# Altium footprint library SMD_CAP.PcbLib: 10 footprints
Each footprint in its own frame and in the unit in brackets; x right, y up, seen from the top. Pads: shape width x height; smd on the part's side, far side on the other; paste and mask are expansions set on the pad; w line width, h text height; cw(c..) or ccw(c..) is an arc to the next point about the centre after c.
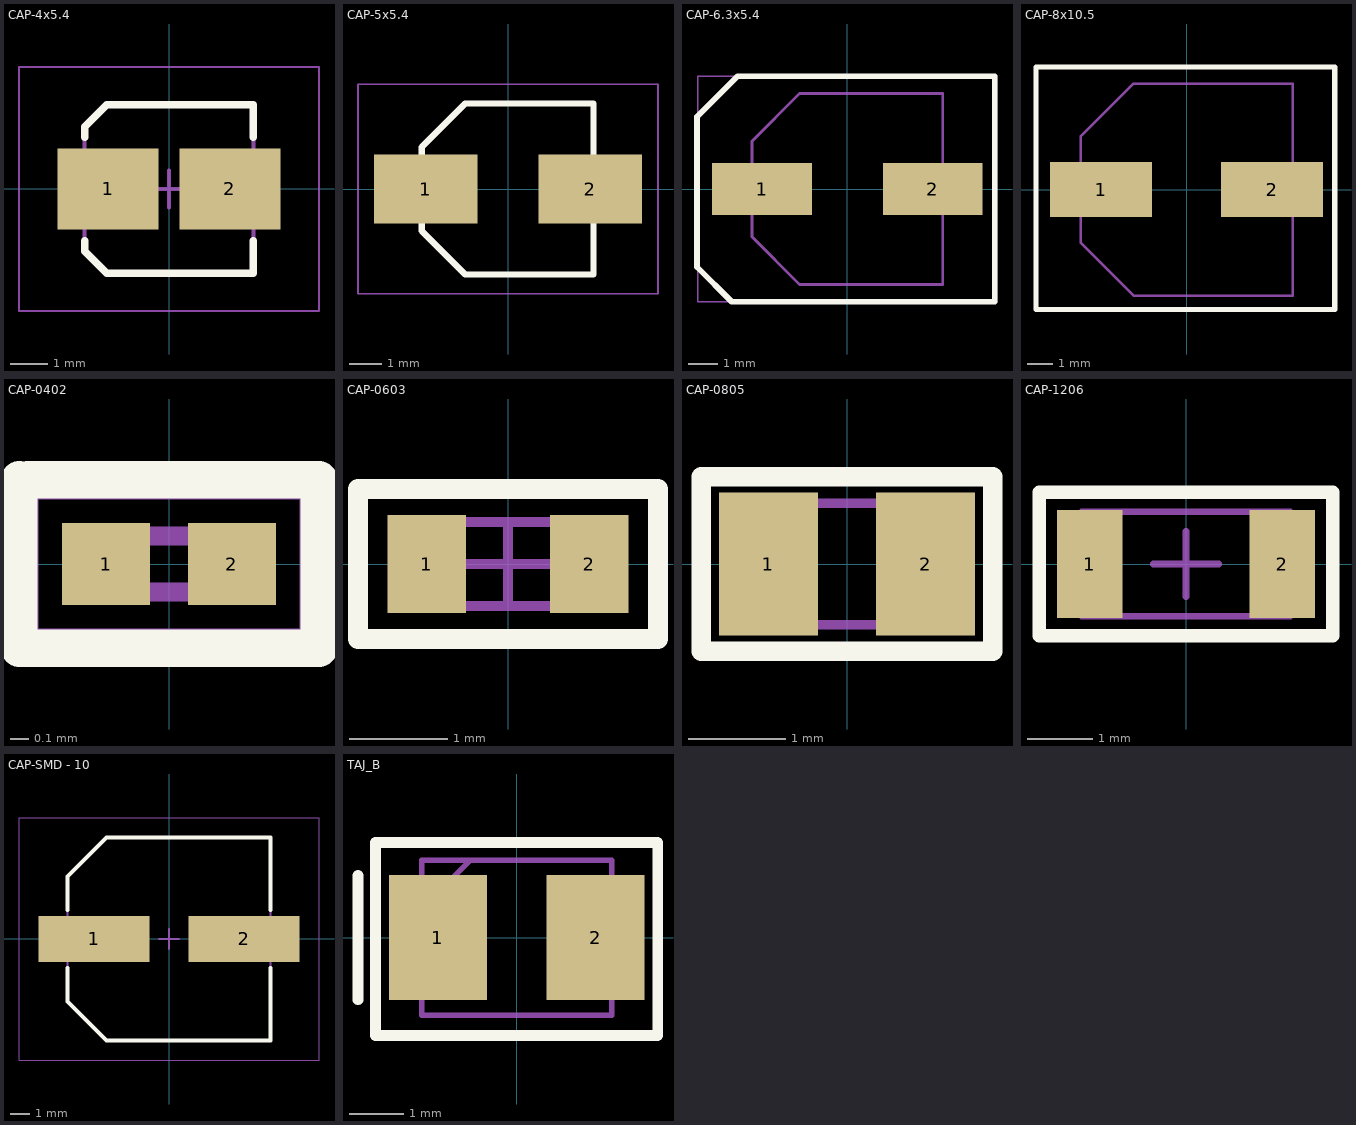
[diagram p0: the footprints below, top view; thin cyan lines are the x and y axes]

## CAP-4x5.4 [mm] "Aluminum Electrolytic Capacitor, Body 4,30x4,30x5,40mm, IPC Low Density"
height 5.4
pads (2):
  rect 2.7x2.15 smd: 1(-1.625,0) 2(1.625,0)
Top Overlay:
  lines w0.2: -2.25,-1.375 -2.25,-1.663 -1.663,-2.25 2.25,-2.25 2.25,-1.375 ; -2.25,1.375 -2.25,1.662 -1.663,2.25 2.25,2.25 2.25,1.375
Mechanical 13:
  lines w0.1: -2.25,-1.663 -1.663,-2.25 2.25,-2.25 2.25,2.25 -1.663,2.25 -2.25,1.662 -2.25,-1.663
Mechanical 15:
  lines w0.05: -4,-3.25 -4,3.25 4,3.25 4,-3.25 -4,-3.25
  lines w0.1: -0.5,0 0.5,0 ; 0,-0.5 0,0.5
3D body "CAPAE4443X54M.step": height 5.4, standoff 0, extent -2.25,-2.25 2.25,2.25

## CAP-5x5.4 [mm]
pads (2):
  rect 3.2x2.15 smd: 1(-2.55,0) 2(2.55,0)
Top Overlay:
  lines w0.2: -2.675,-1.3 -2.675,1.3 -1.325,2.65 2.65,2.65 2.65,-2.65 -1.325,-2.65 -2.675,-1.3
Mechanical 13:
  lines w0.1: -2.65,-1.325 -1.325,-2.65 2.65,-2.65 2.65,2.65 -1.325,2.65 -2.65,1.325 -2.65,-1.325
Mechanical 15:
  lines w0.05: -4.65,-3.25 -4.65,3.25 4.65,3.25 4.65,-3.25 -4.65,-3.25
3D body "RVT1H100M0505.stp": height 5.7, standoff 0, extent -3.45,-2.75 3.45,2.75

## CAP-6.3x5.4 [mm]
pads (2):
  rect 3.45x1.8 smd: 1(-2.95,0) 2(2.95,0)
Top Overlay:
  lines w0.2: -5.2,-2.7 -5.2,2.5 -3.8,3.9 5.1,3.9 5.1,-3.9 -4,-3.9 -5.2,-2.7
Mechanical 13:
  lines w0.1: -3.3,-1.65 -3.3,1.65 -1.65,3.3 3.3,3.3 3.3,-3.3 -1.65,-3.3 -3.3,-1.65
Mechanical 15:
  lines w0.05: -5.175,-3.9 5.175,-3.9 5.175,3.9 -5.175,3.9 -5.175,-3.9
3D body "EEV107M6R3A9GAA.stp": height 5.36, standoff -0.3, extent -3.8,-3.4 3.8,3.4

## CAP-8x10.5 [mm]
pads (2):
  rect 4x2.15 smd: 1(-3.35,0) 2(3.35,0)
Top Overlay:
  lines w0.2: -5.9,-4.7 5.8,-4.7 5.8,4.8 -5.9,4.8 -5.9,-4.7
Mechanical 13:
  lines w0.1: -4.15,-2.075 -2.075,-4.15 4.15,-4.15 4.15,4.15 -2.075,4.15 -4.15,2.075 -4.15,-2.075
Mechanical 15:
  lines w0.05: -5.85,-4.75 -5.85,4.75 5.85,4.75 5.85,-4.75 -5.85,-4.75
3D body "UCW1C331MNL1GS.stp": height 10.5, standoff 0, extent -4.65,-4.25 4.65,4.25

## CAP-0402 [mm]
pads (2):
  rect 0.47x0.44 smd: 1(-0.335,0) 2(0.335,0)
Top Overlay:
  lines w0.2: -0.8,0.45 -0.8,-0.45 0.8,-0.45 0.8,0.45 -0.75,0.45
Mechanical 13:
  lines w0.1: -0.3,-0.15 0.3,-0.15 0.3,0.15 -0.3,0.15 -0.3,-0.15
Mechanical 15:
  lines w0.05: -0.72,-0.37 0.72,-0.37 0.72,0.37 -0.72,0.37 -0.72,-0.37
3D body "02014D224MAT2A.stp": height 0.33, standoff 0, extent -0.3,-0.15 0.3,0.15

## CAP-0603 [mm] "Chip Capacitor, 2-Leads, Body 1,60x0,85mm, IPC Medium Density"
height 0.6
pads (2):
  rect 0.8x1 smd: 1(-0.825,0) 2(0.825,0)
Top Overlay:
  lines w0.2: -1.524,-0.762 1.524,-0.762 1.524,0.762 -1.524,0.762 -1.524,-0.762
Mechanical 13:
  lines w0.1: -0.8,-0.425 -0.8,0.425 0.8,0.425 0.8,-0.425 -0.8,-0.425
Mechanical 15:
  lines w0.05: -1.5,-0.75 -1.5,0.75 1.5,0.75 1.5,-0.75 -1.5,-0.75
  lines w0.1: -0.425,0 0.425,0 ; 0,-0.425 0,0.425
3D body "CAPC1608X06N.step": height 0.6, standoff 0, extent -0.8,-0.425 0.8,0.425

## CAP-0805 [mm]
pads (2):
  rect 1.02x1.47 smd: 1(-0.81,0) 2(0.81,0)
Top Overlay:
  lines w0.2: -1.5,-0.9 -1.5,0.9 1.5,0.9 1.5,-0.9 -1.5,-0.9
Mechanical 13:
  lines w0.1: -1.005,-0.625 1.005,-0.625 1.005,0.625 -1.005,0.625 -1.005,-0.625
Mechanical 15:
  lines w0.05: -1.47,-0.89 1.47,-0.89 1.47,0.89 -1.47,0.89 -1.47,-0.89
3D body "08055A471FAT4A.stp": height 0.94, standoff 0, extent -1.005,-0.625 1.005,0.625

## CAP-1206 [mm] "Chip Capacitor, 2-Leads, Body 3,10x1,55mm, IPC Medium Density"
height 0.5
pads (2):
  rect 1x1.65 smd: 1(-1.475,0) 2(1.475,0)
Top Overlay:
  lines w0.2: -2.25,-1.1 2.25,-1.1 2.25,1.1 -2.25,1.1 -2.25,-1.1
Mechanical 13:
  lines w0.1: -1.6,-0.8 -1.6,0.8 1.6,0.8 1.6,-0.8 -1.6,-0.8
Mechanical 15:
  lines w0.05: -2.25,-1.1 -2.25,1.1 2.25,1.1 2.25,-1.1 -2.25,-1.1
  lines w0.1: -0.5,0 0.5,0 ; 0,-0.5 0,0.5
3D body "CAPC3116X05N.step": height 0.5, standoff 0, extent -1.6,-0.8 1.6,0.8

## CAP-SMD - 10 [mm] "Aluminum Electrolytic Capacitor, Body 10,20x10,20x10,20mm, IPC Low Density"
height 10.2
pads (2):
  rect 5.6x2.35 smd: 1(-3.8,0) 2(3.8,0)
Top Overlay:
  lines w0.2: -5.15,-1.475 -5.15,-3.163 -3.163,-5.15 5.15,-5.15 5.15,-1.475 ; -5.15,1.475 -5.15,3.162 -3.163,5.15 5.15,5.15 5.15,1.475
Mechanical 13:
  lines w0.1: -5.15,-3.163 -5.15,3.162 -3.163,5.15 5.15,5.15 5.15,-5.15 -3.163,-5.15 -5.15,-3.163
Mechanical 15:
  lines w0.05: -7.6,-6.15 7.6,-6.15 7.6,6.15 -7.6,6.15 -7.6,-6.15
  lines w0.1: -0.5,0 0.5,0 ; 0,-0.5 0,0.5
3D body "CAPAE110102X102M.step": height 10.2, standoff 0, extent -5.5,-5.15 5.5,5.15

## TAJ_B [mm]
pads (2):
  rect 1.8x2.3 smd: 1(-1.45,0) 2(1.45,0)
Top Overlay:
  lines w0.2: -2.921,-1.143 -2.921,1.143 ; -2.6,-1.8 2.591,-1.8 2.596,-1.796 2.596,1.743 2.59,1.748 -2.597,1.748 -2.597,-1.797 -2.6,-1.8
Mechanical 13:
  lines w0.1: -1.75,0.525 -0.85,1.425 ; -1.75,-1.425 -1.75,1.425 1.75,1.425 1.75,-1.425 -1.75,-1.425
Mechanical 15:
  lines w0.05: -2.6,-1.75 -2.6,1.75 2.6,1.75 2.6,-1.75 -2.6,-1.75
3D body "TAJB476K010RNJ.stp": height 2.1, standoff 0, extent -1.75,-1.425 1.75,1.425